# Altium schematic symbol library vitech_inductors.SchLib: 9 symbols
Pins are listed as number, name and electrical type; pins without a type are passive.

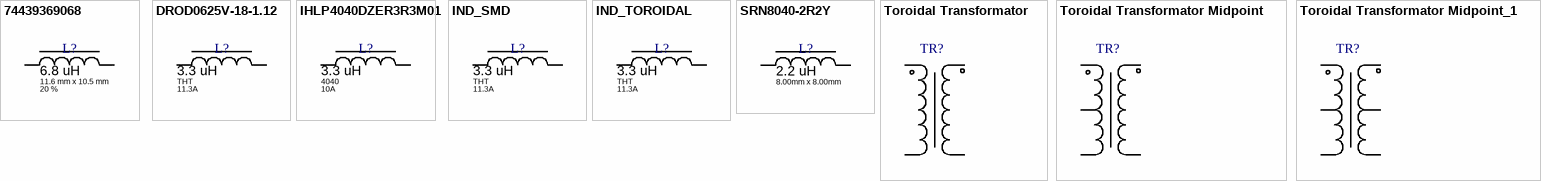
[diagram p0: symbols 74439369068 to Toroidal Transformator Midpoint_1]

## 74439369068
designator L?, comment value 6.8 uH  Tolerance: 20 %  Package: 11.6 mm x 10.5 mm  (hidden comment: 6.8uH)
Power Inductors - SMD WE-XHMI SMD 1090 6.8uH 10.5A 7.6mOhms AEC-Q200; Manufacturer: Wurth Elektronik; Part Number: 74439369068; Saturation Current: 21.5 A; Component Type: SMD
footprint 74439369068
pins: 1, 2

## DROD0625V-18-1.12
designator L?, comment value 3.3 uH  Package: THT  Current: 11.3A  (hidden comment: 3.3uH)
Дросель з магазину Coretech; Manufacturer: Bourns Inc.; Part Number: RLB0914-3R3ML-ND; Tolerance: ±20%; ComponentLink1Description: Datasheet; ComponentLink1URL: https://www.vishay.com/docs/34193/ihlp-4040dz-01.pdf; Saturation Current: 11.3A
footprint DROD0625V-18-1.12 (Дросель з магазину Coretech)
pins: 1, 2

## IHLP4040DZER3R3M01
designator L?, comment value 3.3 uH  Package: 4040  Current: 10A  (hidden comment: 3.3uH)
FIXED IND 3.3UH 10A 14.4MOHM SMD; Manufacturer: Vishay Dale; Part Number: IHLP4040DZER3R3M01; Saturation Current: 18.6А; Tolerance: ±20%; ComponentLink1Description: Datasheet; ComponentLink1URL: https://www.vishay.com/docs/34193/ihlp-4040dz-01.pdf
footprint IHLP4040DZER3R3M01
pins: 1, 2

## IND_SMD
designator L?, comment value 3.3 uH  Package: THT  Current: 11.3A  (hidden comment: 3.3uH)
3.3 µH Unshielded Drum Core, Wirewound Inductor 3.6 A 27mOhm Max Radial, Vertical Cylinder; Manufacturer: Bourns Inc.; Part Number: RLB0914-3R3ML-ND; Tolerance: ±20%; ComponentLink1Description: Datasheet; ComponentLink1URL: https://www.vishay.com/docs/34193/ihlp-4040dz-01.pdf; Saturation Current: 11.3A
footprint IND: SDR0302
footprint IND: SDR0403
footprint IND: SDR0604
footprint IND: SDR0805
footprint IND: SDR1006
footprint IND: SRP1038C
footprint IND: SRP1265A
footprint IND: SRP2510A
footprint IND: SRP7028A
footprint IND:VLS2016
footprint IND:VLS6045
pins: 1, 2

## IND_TOROIDAL
designator L?, comment value 3.3 uH  Package: THT  Current: 11.3A  (hidden comment: 3.3uH)
3.3 µH Unshielded Drum Core, Wirewound Inductor 3.6 A 27mOhm Max Radial, Vertical Cylinder; Manufacturer: Bourns Inc.; Part Number: RLB0914-3R3ML-ND; Tolerance: ±20%; ComponentLink1Description: Datasheet; ComponentLink1URL: https://www.vishay.com/docs/34193/ihlp-4040dz-01.pdf; Saturation Current: 11.3A
footprint IND: R22.9/14/7.62 (H)
footprint IND: R22.9/14/7.62 (L)
footprint IND: R26.9/14.7/11.2 (H)
footprint IND: R26.9/14.7/11.2 (L)
footprint IND: R32.8/20.1/10.7 (H)
footprint IND: R32.8/20.1/10.7 (L)
footprint IND: R39.9/24.1/14.5 (H)
footprint IND: R39.9/24.1/14.5 (L)
pins: 1, 2

## SRN8040-2R2Y
designator L?, comment value 2.2 uH  Package: 8.00mm x 8.00mm  (hidden comment: 2.2uH)
FIXED IND 2.2UH 6.3A 13 MOHM SMD; Manufacturer: Bourns Inc.; Part Number: SRN8040-2R2Y; Tolerance: ±30%; Saturation Current: 7.4A; Voltage: *; Component Type: SMD
footprint SRN8040-2R2Y
pins: 1, 2

## Toroidal Transformator
designator TR?, comment TR  (value not drawn)
Manufacturer: Handmade; Part Number: RLB0914-3R3ML-ND; Saturation Current: 11.3A; Tolerance: ±20%; ComponentLink1Description: Datasheet; ComponentLink1URL: https://www.vishay.com/docs/34193/ihlp-4040dz-01.pdf
footprint TR: R32.8/20.1/10.7 (L)
pins: 1, 2, 3, 4

## Toroidal Transformator Midpoint
designator TR?, comment TR  (value not drawn)
Manufacturer: Handmade; Part Number: RLB0914-3R3ML-ND; Saturation Current: 11.3A; Tolerance: ±20%; ComponentLink1Description: Datasheet; ComponentLink1URL: https://www.vishay.com/docs/34193/ihlp-4040dz-01.pdf
footprint TR: R32.8/20.1/10.7 (L) - MidPoint
pins: 1, 2, 3, 4, 5

## Toroidal Transformator Midpoint_1
designator TR?, comment TR  (value not drawn)
Manufacturer: Handmade; Part Number: RLB0914-3R3ML-ND; Saturation Current: 11.3A; Tolerance: ±20%; ComponentLink1Description: Datasheet; ComponentLink1URL: https://www.vishay.com/docs/34193/ihlp-4040dz-01.pdf
footprint TR: R32.8/20.1/10.7 (L) - MINPOINT- 2
pins: 1, 2, 3, 4, 5, 6